# Altium footprint library IR.PcbLib: 1 footprints
Each footprint in its own frame and in the unit in brackets; x right, y up, seen from the top. Pads: shape width x height; smd on the part's side, far side on the other; paste and mask are expansions set on the pad; w line width, h text height; cw(c..) or ccw(c..) is an arc to the next point about the centre after c.
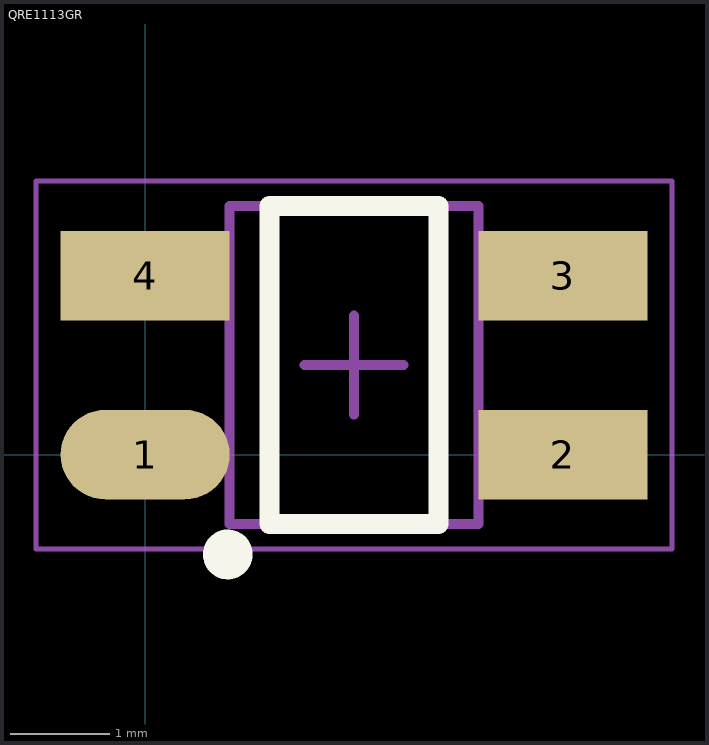
[diagram p0: the footprint, top view; thin cyan lines are the x and y axes]

## QRE1113GR [mm] "SOP, 4-Leads, Body 3.40x2.70mm, Pitch 1.80mm, IPC Medium Density"
height 1.7
pads (4):
  oval 1.7x0.9 smd: 1(0,0)
  rect 1.7x0.9 smd: 2(4.2,0) 3(4.2,1.8) 4(0,1.8)
Top Overlay:
  circle w0.25: c0.83,-1.005 r0.125
  lines w0.2: 1.25,-0.7 2.95,-0.7 2.95,2.5 1.25,2.5 1.25,-0.7
Mechanical 13:
  lines w0.1: 0.85,-0.7 3.35,-0.7 3.35,2.5 0.85,2.5 0.85,-0.7
Mechanical 15:
  lines w0.05: -1.1,-0.95 5.3,-0.95 5.3,2.75 -1.1,2.75 -1.1,-0.95
  lines w0.1: 1.6,0.9 2.6,0.9 ; 2.1,0.4 2.1,1.4